# EAGLE library part IRF7319 (library lio)
Complimentary Half Bridge HEXFET Power MOSFET Source: http://www.irf.com/product-info/datasheets/data/irf7319.pdf
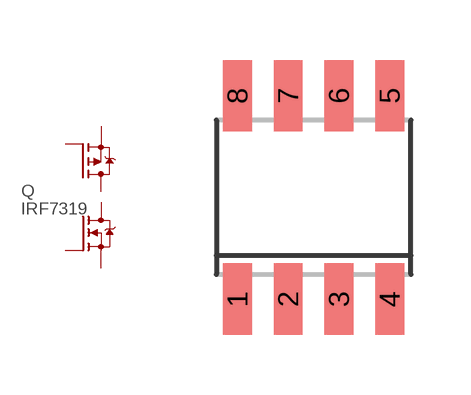
[diagram p14: symbol with the pads of SO08-IRF; footprint SO08-IRF]

Designator prefix Q

## IRF7319  [SO08-IRF]
1  N-S  pas
2  N-G  pas
3  P-S  pas
4  P-G  pas
5  P-D  pas
6  P-D  pas
7  N-D  pas
8  N-D  pas

## Footprint SO08-IRF (pad centres in mm)
SO8 Source: http://www.irf.com/product-info/datasheets/data/irf7389.pdf
smd 0.72 x 1.78: 1 -1.905,-2.543; 2 -0.635,-2.543; 3 0.635,-2.543; 4 1.905,-2.543; 5 1.905,2.543; 6 0.635,2.543; 7 -0.635,2.543; 8 -1.905,2.543